# EAGLE library part BMP388 (library NUSTARS ADS Library)
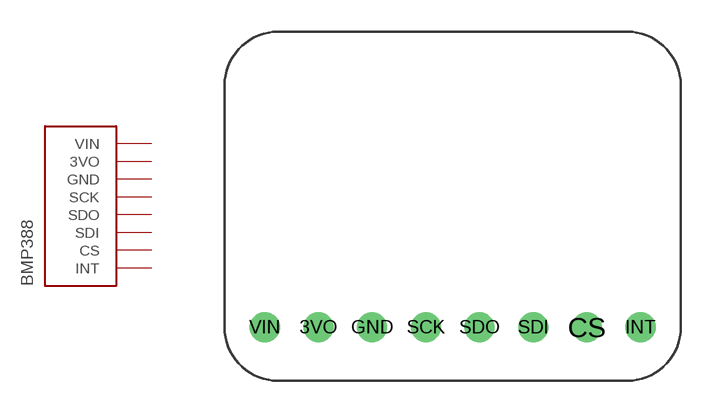
[diagram p1: symbol with the pads of BMP388; footprint BMP388]

Designator prefix -

## BMP388  [BMP388]
3VO  3VO
CS  CS
GND  GND
INT  INT
SCK  SCK
SDI  SDI
SDO  SDO
VIN  VIN

## Footprint BMP388 (pad centres in mm)
drill 0.75 pad 1.422: 3VO 4.445,2.54; CS 17.145,2.54; GND 6.985,2.54; INT 19.685,2.54; SCK 9.525,2.54; SDI 14.605,2.54; SDO 12.065,2.54; VIN 1.905,2.54